# Altium footprint library Axsem-PIR_V.1.PcbLib: 28 footprints (part 2 of 2)
Each footprint in its own frame and in the unit in brackets; x right, y up, seen from the top. Pads: shape width x height; smd on the part's side, far side on the other; paste and mask are expansions set on the pad; w line width, h text height; cw(c..) or ccw(c..) is an arc to the next point about the centre after c.
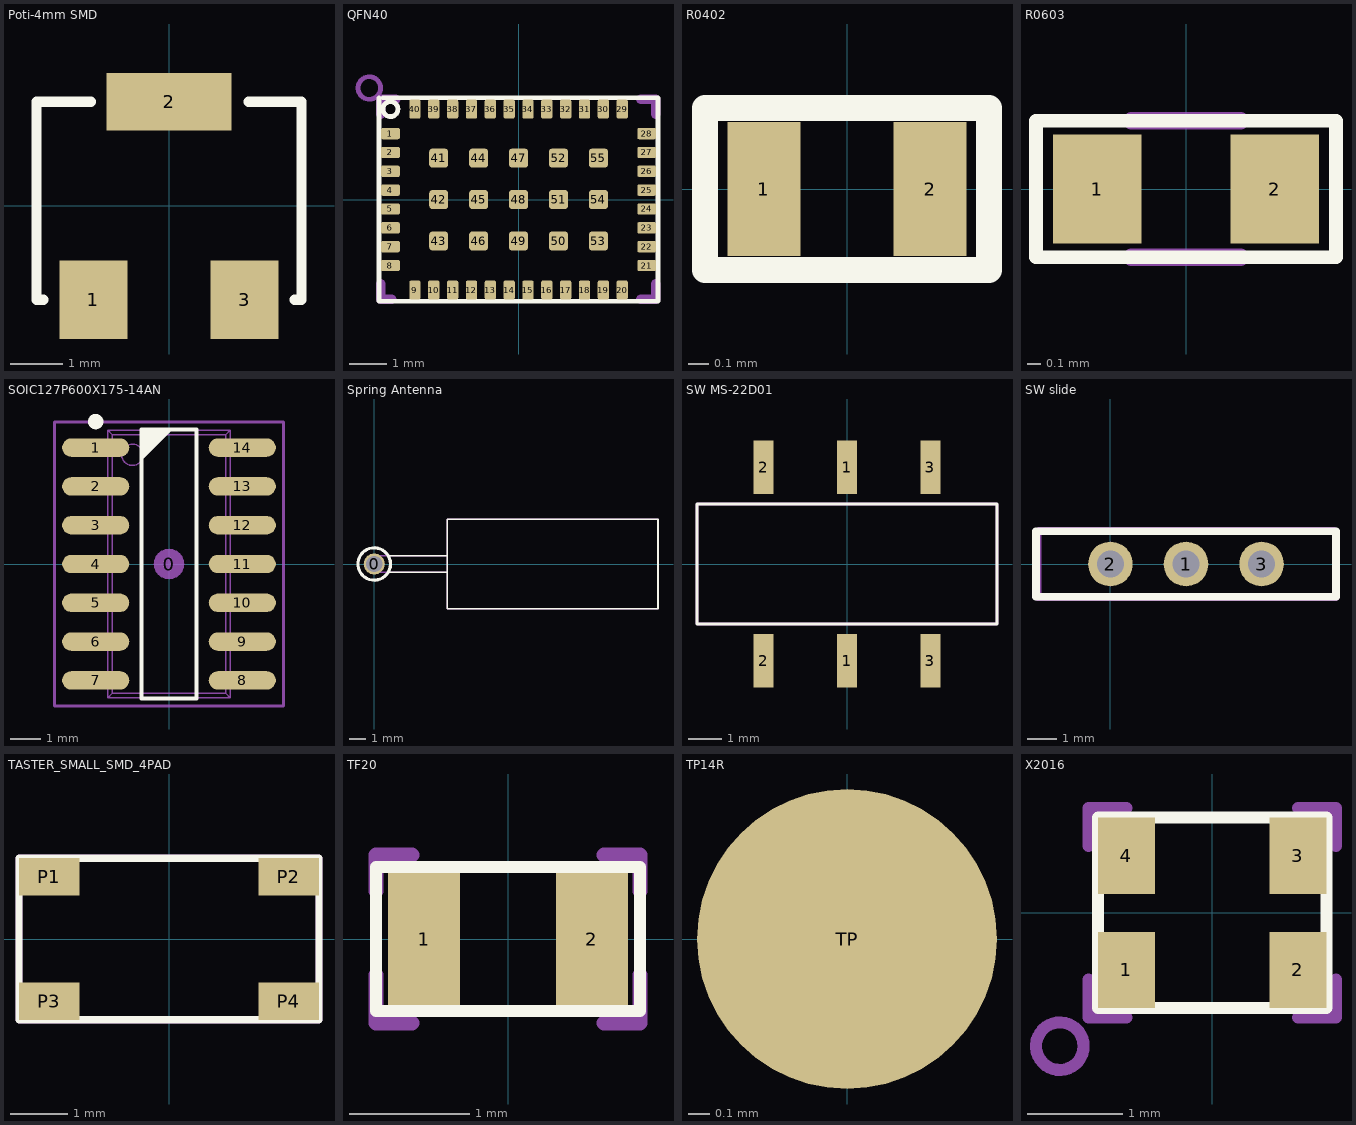
[diagram p1: the footprints below, top view; thin cyan lines are the x and y axes]

## Poti-4mm SMD [mm] "Bourns 3364W SMD 4mm"
height 1.5
pads (3):
  rect 1.3x1.5 smd: 1(-1.45,-1.8) 3(1.45,-1.8)
  rect 2.4x1.1 smd: 2(0,2)
Top Overlay:
  lines w0.2: -2.413,-1.8 -2.54,-1.8 -2.54,2 -1.5,2 ; 1.524,2 2.54,2 2.54,-1.8 2.413,-1.8
Mechanical 13:
  lines w0.1: -2.413,-1.822 -2.54,-1.822 -2.54,1.978 -1.5,1.978 ; 1.524,1.978 2.54,1.978 2.54,-1.822 2.413,-1.822
3D body "3364w-1-504e.stp": height 1.01, standoff -0.03, extent -1.9,-2.23 1.9,2.27

## QFN40 [mm]
height 1
pads (55):
  rrect30% 0.5x0.3 smd: 1(-3.4,1.75) 2(-3.4,1.25) 3(-3.4,0.75) 4(-3.4,0.25) 5(-3.4,-0.25) 6(-3.4,-0.75) 7(-3.4,-1.25) 8(-3.4,-1.75) 21(3.4,-1.75) 22(3.4,-1.25) 23(3.4,-0.75) 24(3.4,-0.25) 25(3.4,0.25) 26(3.4,0.75) 27(3.4,1.25) 28(3.4,1.75)
  rrect30% 0.3x0.5 smd: 9(-2.75,-2.4) 10(-2.25,-2.4) 11(-1.75,-2.4) 12(-1.25,-2.4) 13(-0.75,-2.4) 14(-0.25,-2.4) 15(0.25,-2.4) 16(0.75,-2.4) 17(1.25,-2.4) 18(1.75,-2.4) 19(2.25,-2.4) 20(2.75,-2.4) 29(2.75,2.4) 30(2.25,2.4) 31(1.75,2.4) 32(1.25,2.4) 33(0.75,2.4) 34(0.25,2.4) 35(-0.25,2.4) 36(-0.75,2.4) 37(-1.25,2.4) 38(-1.75,2.4) 39(-2.25,2.4) 40(-2.75,2.4)
  rrect30% 0.5x0.5 smd: 41(-2.12,1.1) 42(-2.12,0) 43(-2.12,-1.1) 44(-1.06,1.1) 45(-1.06,0) 46(-1.06,-1.1) 47(0,1.1) 48(0,0) 49(0,-1.1) 50(1.06,-1.1) 51(1.06,0) 52(1.06,1.1) 53(2.12,-1.1) 54(2.12,0) 55(2.12,1.1)
Top Overlay:
  circle w0.127: c-3.4,2.4 r0.2
  lines w0.127: -3.7,2.7 -3.7,-2.7 3.7,-2.7 3.7,2.7 -3.6,2.7
Mechanical 16:
  circle w0.127: c-3.96,2.96 r0.3
  lines w0.254: -3.66,-2.24 -3.66,-2.64 -3.36,-2.64 ; -3.66,2.26 -3.66,2.66 -3.26,2.66 ; 3.24,-2.64 3.64,-2.64 3.64,-2.24 ; 3.24,2.66 3.64,2.66 3.64,2.26
3D body: height 0.8, standoff 0.7, extent -3.067,-2.051 -2.267,-1.251
3D body: height 0.8, standoff 0.7, extent -2.84,1.415 -2.24,2.015
3D body "User Library-5x7mmQFN40.STEP": height 0.73, standoff -0.03, extent -3.505,-2.505 3.505,2.505

## R0402 [mm] "R0402"
height 1
pads (2):
  rect 0.36x0.66 smd: 1(-0.41,0) 2(0.41,0)
Top Overlay:
  lines w0.127: -0.7,-0.4 0.7,-0.4 0.7,0.4 -0.7,0.4 -0.7,-0.4
Mechanical 16:
  lines w0.127: -0.3,-0.4 0.3,-0.4 ; -0.3,0.4 0.3,0.4
3D body "User Library-0402R.STEP": height 0.34, standoff 0, extent -0.52,-0.3 0.52,0.3
3D body: height 0, standoff 0, extent -0.692,-0.432 0.692,0.432
3D body: height 0, standoff 0, extent -0.363,-0.464 0.363,0.464
3D body: height 0, standoff 0, extent -0.764,-0.464 0.764,0.464
3D body: height 0, standoff 0, extent -0.7,-0.4 0.7,0.4
3D body: height 0, standoff 0, extent -0.764,-0.464 0.764,0.464

## R0603 [mm] "R0603"
height 2
pads (2):
  rect 0.65x0.8 smd: 1(-0.65,0) 2(0.65,0)
Top Overlay:
  lines w0.1: -1.1,-0.5 1.1,-0.5 1.1,0.5 -1.1,0.5 -1.1,-0.5
Mechanical 16:
  lines w0.127: -0.4,-0.5 0.4,-0.5 ; -0.4,0.5 0.4,0.5
3D body "User Library-R_0603.STEP": height 0.5, standoff 0, extent -0.8,-0.45 0.8,0.45

## SOIC127P600X175-14AN [mm]
pads (15):
  round 1 on Mech15: 0(0,0)
  oval 2.2x0.6 smd: 1(-2.4,3.81) 2(-2.4,2.54) 3(-2.4,1.27) 4(-2.4,0) 5(-2.4,-1.27) 6(-2.4,-2.54) 7(-2.4,-3.81) 8(2.4,-3.81) 9(2.4,-2.54) 10(2.4,-1.27) 11(2.4,0) 12(2.4,1.27) 13(2.4,2.54) 14(2.4,3.81)
Top Overlay:
  circle w0.25: c-2.4,4.66 r0.125
  region: -0.9,4.4 0.1,4.4 -0.9,3.4
  lines w0.127: -0.9,-4.4 0.9,-4.4 0.9,4.4 -0.9,4.4 -0.9,-4.4
Mechanical 13:
  circle w0.05: c-1.2,3.575 r0.35
  lines w0.05: -2.631,-4.02 -2.631,-3.6 ; -2.631,-2.75 -2.631,-2.33 ; -2.631,-1.48 -2.631,-1.06 ; -2.631,-0.21 -2.631,0.21 ; -2.631,1.06 -2.631,1.48 ; -2.631,2.33 -2.631,2.75 ; -2.631,3.6 -2.631,4.02 ; -2.543,-4.02 -2.543,-3.6 ; -2.543,-2.75 -2.543,-2.33 ; -2.543,-1.48 -2.543,-1.06 ; -2.543,-0.21 -2.543,0.21 ; -2.543,1.06 -2.543,1.48 ; -2.543,2.33 -2.543,2.75 ; -2.543,3.6 -2.543,4.02 ; -2.403,-4.02 -2.403,-3.6 ; -2.403,-2.75 -2.403,-2.33 ; -2.403,-1.48 -2.403,-1.06 ; -2.403,-0.21 -2.403,0.21 ; -2.403,1.06 -2.403,1.48 ; -2.403,2.33 -2.403,2.75 ; -2.403,3.6 -2.403,4.02 ; -2.113,-4.02 -2.113,-3.6 ; -2.113,-2.75 -2.113,-2.33 ; -2.113,-1.48 -2.113,-1.06 ; -2.113,-0.21 -2.113,0.21 ; -2.113,1.06 -2.113,1.48 ; -2.113,2.33 -2.113,2.75 ; -2.113,3.6 -2.113,4.02 ; -2,-4.02 -3,-4.02 -3,-3.6 -2,-3.6 ; -2,-2.75 -3,-2.75 -3,-2.33 -2,-2.33 ; -2,-1.48 -3,-1.48 -3,-1.06 -2,-1.06 ; -2,-0.21 -3,-0.21 -3,0.21 -2,0.21 ; -2,1.06 -3,1.06 -3,1.48 -2,1.48 ; -2,2.33 -3,2.33 -3,2.75 -2,2.75 ; -2,3.6 -3,3.6 -3,4.02 -2,4.02 ; 2,-4.02 3,-4.02 3,-3.6 2,-3.6 ; 2,-2.75 3,-2.75 3,-2.33 2,-2.33 ; 2,-1.48 3,-1.48 3,-1.06 2,-1.06 ; 2,-0.21 3,-0.21 3,0.21 2,0.21 ; 2,1.06 3,1.06 3,1.48 2,1.48 ; 2,2.33 3,2.33 3,2.75 2,2.75 ; 2,3.6 3,3.6 3,4.02 2,4.02 ; 2.113,-4.02 2.113,-3.6 ; 2.113,-2.75 2.113,-2.33 ; 2.113,-1.48 2.113,-1.06 ; 2.113,-0.21 2.113,0.21 ; 2.113,1.06 2.113,1.48 ; 2.113,2.33 2.113,2.75 ; 2.113,3.6 2.113,4.02 ; 2.403,-4.02 2.403,-3.6 ; 2.403,-2.75 2.403,-2.33 ; 2.403,-1.48 2.403,-1.06 ; 2.403,-0.21 2.403,0.21 ; 2.403,1.06 2.403,1.48 ; 2.403,2.33 2.403,2.75 ; 2.403,3.6 2.403,4.02 ; 2.543,-4.02 2.543,-3.6 ; 2.543,-2.75 2.543,-2.33 ; 2.543,-1.48 2.543,-1.06 ; 2.543,-0.21 2.543,0.21 ; 2.543,1.06 2.543,1.48 ; 2.543,2.33 2.543,2.75 ; 2.543,3.6 2.543,4.02 ; 2.631,-4.02 2.631,-3.6 ; 2.631,-2.75 2.631,-2.33 ; 2.631,-1.48 2.631,-1.06 ; 2.631,-0.21 2.631,0.21 ; 2.631,1.06 2.631,1.48 ; 2.631,2.33 2.631,2.75 ; 2.631,3.6 2.631,4.02 ; -2,-4.375 -2,4.375 ; -2,-4.375 -1.851,-4.226 ; -2,-4.375 2,-4.375 ; -2,4.375 -1.851,4.226 ; -2,4.375 2,4.375 ; -1.851,-4.226 1.851,-4.226 ; -1.851,-4.226 -1.851,4.226 ; -1.851,4.226 1.851,4.226 ; 1.851,-4.226 2,-4.375 ; 1.851,-4.226 1.851,4.226 ; 1.851,4.226 2,4.375 ; 2,-4.375 2,4.375
Mechanical 15:
  lines w0.1: -3.75,-4.65 3.75,-4.65 3.75,4.65 -3.75,4.65 -3.75,-4.65
3D body "SOIC127P600X175-14AN.stp": height 1.75, standoff 0, extent -3.006,-4.325 3.006,4.325

## Spring Antenna [mm] "SW868-TH13 Antenna"
height 5.5
pads (1):
  round 1.3 hole 1: 0(0,0)
Top Overlay:
  circle w0.2: c0,0 r1
  lines w0.1: 1,-0.5 4.5,-0.5 4.5,0.5 1,0.5 ; 4.5,-2.75 4.5,2.75 17.5,2.75 17.5,-2.75 4.5,-2.75
Mechanical 15:
  lines w0.1: 0,-0.5 4.5,-0.5 ; 0,0.5 4.5,0.5 ; 4.5,-2.75 4.5,2.75 17.5,2.75 17.5,-2.75 4.5,-2.75
3D body "User Library-SW868-TH13.STEP": height 6.65, standoff -1.75, extent -0.455,-2.134 17.845,4.166

## SW MS-22D01 [mm] "MS-22D01 2P2T DC 6V 300mA"
height 5.3
pads (6):
  rect 0.6x1.6 smd: 1(0,-2.9) 1(0,2.9) 2(-2.5,-2.9) 2(-2.5,2.9) 3(2.5,-2.9) 3(2.5,2.9)
Top Overlay:
  lines w0.1: -4.5,-1.8 -4.5,1.8 4.5,1.8 4.5,-1.8 -4.5,-1.8
Mechanical 13:
  lines w0.1: -4.5,-1.8 4.5,-1.8 4.5,1.8 -4.5,1.8 -4.5,-1.8
3D body: height 5.3, standoff 3.3, extent -1.27,-0.635 0,0.635
3D body: height 3.3, standoff 0.3, extent -4.445,-1.778 4.445,1.778
3D body: height 3.4, standoff 3.3, extent -1.27,-0.635 1.27,0.635

## SW slide [mm] "slide switch WE 450301014042"
height 6.4
pads (3):
  round 1.5 hole 0.9: 1(2.54,0) 2(0,0) 3(5.08,0)
Top Overlay:
  lines w0.254: -2.5,-1.1 7.58,-1.1 7.58,1.1 -2.5,1.1 -2.5,-1.1
Mechanical 15:
  lines w0.254: -2.438,-1.118 7.569,-1.118 7.569,1.067 7.518,1.118 -2.388,1.118 -2.438,1.067 -2.438,-1.118
3D body: height 0.5, standoff -5, extent -0.297,-0.299 0.3,0.3
3D body: height 0.5, standoff -5, extent 4.783,-0.299 5.38,0.3
3D body: height 5.8, standoff 5, extent -1.27,-0.965 7.366,0.965
3D body: height 5, standoff 0.5, extent -2.489,-1.118 7.569,1.118
3D body: height 0.5, standoff -5, extent 2.242,-0.299 2.84,0.3
3D body: height 7.9, standoff 5.8, extent 0,-0.965 1.524,0.965

## TASTER_SMALL_SMD_4PAD [mm] "TASTER_SMALL_SMD_4PAD"
pads (4):
  rect 1.05x0.65 smd: P1(-2.075,1.075) P2(2.075,1.075) P3(-2.075,-1.075) P4(2.075,-1.075)
Top Overlay:
  lines w0.127: -2.6,-1.4 2.6,-1.4 2.6,1.4 -2.6,1.4 -2.6,-1.4
Mechanical 16:
  lines w0.127: -2.6,-1.4 2.6,-1.4 2.6,1.4 -2.6,1.4 -2.6,-1.4

## TF20 [mm] "TF20"
pads (2):
  rect 0.6x1.1 smd: 1(-0.7,0) 2(0.7,0)
Top Overlay:
  lines w0.1: -1.1,-0.6 -1.1,0.6 1.1,0.6 1.1,-0.6 -1.1,-0.6
Mechanical 16:
  lines w0.127: -1.1,-0.3 -1.1,-0.7 -0.8,-0.7 ; -1.1,0.4 -1.1,0.7 -0.8,0.7 ; 0.8,-0.7 1.1,-0.7 1.1,-0.3 ; 0.8,0.7 1.1,0.7 1.1,0.4

## TP14R [mm] "TP14R"
pads (1):
  rrect100% 1.4x1.4 smd: TP(0,0)

## X2016 [mil] "X2016"
height 118.11
pads (4):
  rect 23.62x31.5 smd: 1(-35.43,-23.62) 2(35.43,-23.62) 3(35.43,23.62) 4(-35.43,23.62)
Top Overlay:
  circle w5: c-35.43,-23.62 r7.87
  lines w5: -47.24,-39.37 -47.24,39.37 47.24,39.37 47.24,-39.37 -47.24,-39.37
Mechanical 16:
  circle w5: c-62.99,-55.12 r9.84
  lines w5: -51.18,-27.56 -51.18,-43.31 -35.43,-43.31 ; -51.18,27.56 -51.18,43.31 -35.43,43.31 ; 35.43,-43.31 51.18,-43.31 51.18,-27.56 ; 35.43,43.31 51.18,43.31 51.18,27.56